# EAGLE library part HILFSSCHUETZ_13-14_21-22_31-32_41-42 (library e-schuetze-relais)
Hilfsschütz mit 1 Schließer, 3 Öffnern
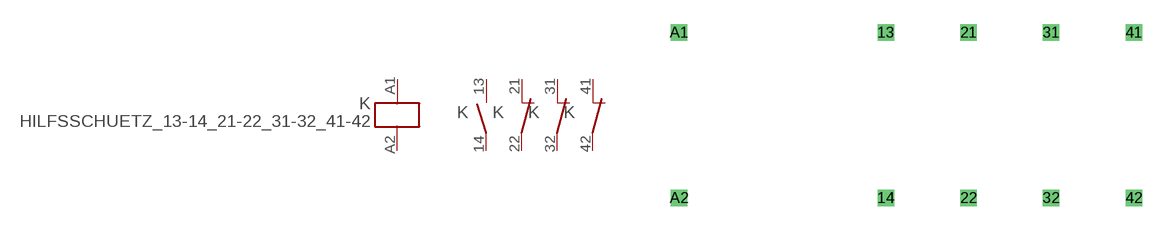
[diagram p7: symbol with the pads of HILFSSCHUETZ_13-14_21-22_31-32_41-42; footprint HILFSSCHUETZ_13-14_21-22_31-32_41-42]

Designator prefix K; gates G$1=SPULE 1=SCHLIESSER 2=OEFFNER 3=OEFFNER 4=OEFFNER

## HILFSSCHUETZ_13-14_21-22_31-32_41-42  [HILFSSCHUETZ_13-14_21-22_31-32_41-42]
13  1:3  pas
14  1:4  pas
21  2:1  pas
22  2:2  pas
31  3:1  pas
32  3:2  pas
41  4:1  pas
42  4:2  pas
A1  G$1:A1  in
A2  G$1:A2  in

## Footprint HILFSSCHUETZ_13-14_21-22_31-32_41-42 (pad centres in mm)
Dummy
drill 0.5 pad 1 square: 13 2.54,5.08; 14 2.54,-5.08; 21 7.62,5.08; 22 7.62,-5.08; 31 12.7,5.08; 32 12.7,-5.08; 41 17.78,5.08; 42 17.78,-5.08; A1 -10.16,5.08; A2 -10.16,-5.08